# Altium integrated library ICgeneral.IntLib: 22 symbols
Pins are listed as number, name and electrical type; pins without a type are passive.

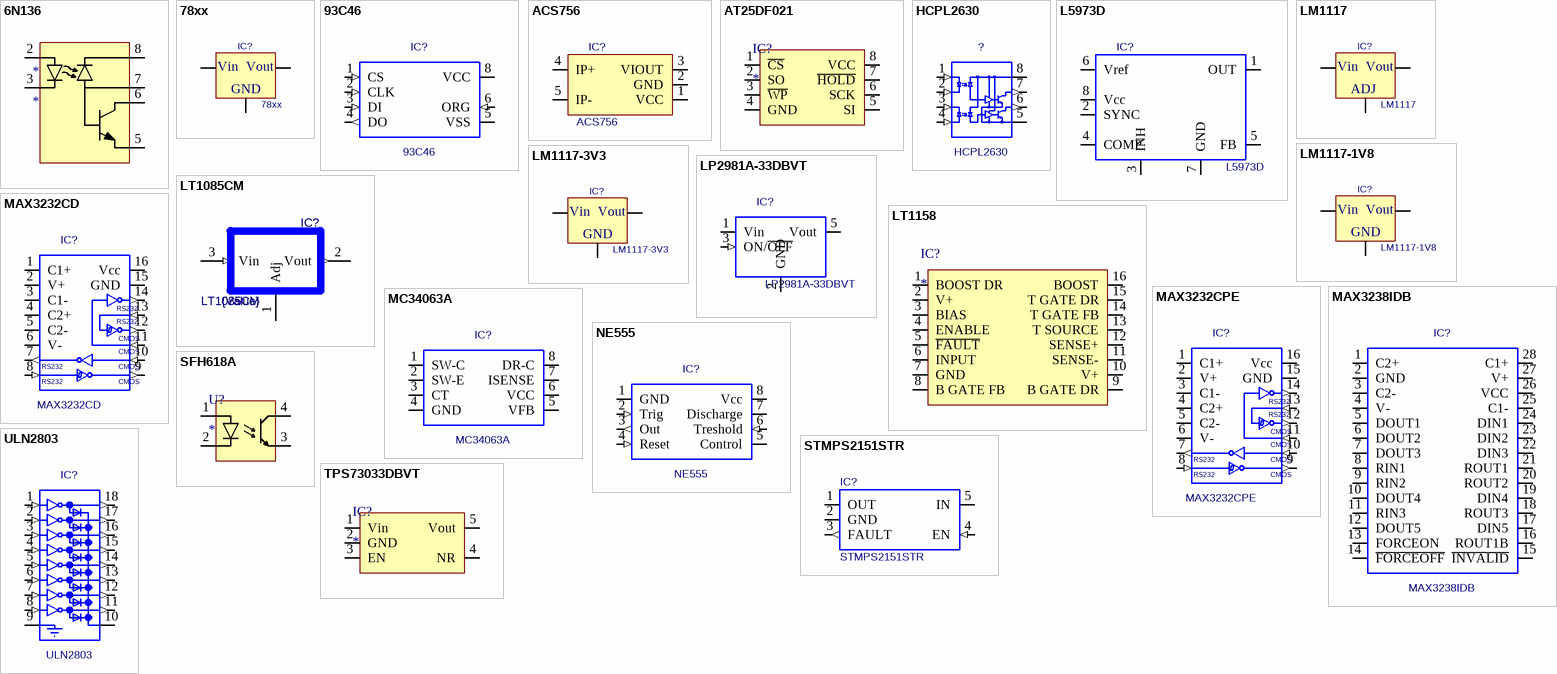
[diagram p0: symbols 6N136 to ULN2803]

## 6N136
designator *
footprint SOP-8-100mil
pins: 2 A, 3 K, 5 GND, 6 Vo, 7 Vb, 8 Vcc

## 78xx
designator IC?
3-point linear voltage regulator series 78xx; Value: *
footprint TO92; pin to pad GND>2 IN>3 OUT>1
pins: GND, IN, OUT
text: Vin; Vout

## 93C46
designator IC?
Value: *
footprint SOIC8N
pins: 1 CS (in), 2 CLK (in), 3 DI (in), 4 DO (out), 5 VSS (power), 6 ORG (in), 7 hidden, 8 VCC (power)

## ACS756
designator IC?
Value: *
footprint ALLEGRO_ACS75x
pins: 1 VCC, 2 GND, 3 VIOUT, 4 IP+, 5 IP-

## AT25DF021
designator IC?
Flash 2Mbit SPI
footprint SOIC8N
pins: 1 ~{CS}, 2 SO, 3 ~{WP}, 4 GND, 5 SI, 6 SCK, 7 ~{HOLD}, 8 VCC

## HCPL2630
designator ?
Value: *
footprint DIP8
pins: 1 (in), 2 (in), 3 (in), 4 (in), 5 GND (power), 6 (out), 7 (out), 8 VCC (power)

## L5973D
designator IC?
Value: *
pins: 1 OUT, 2 SYNC, 3 INH, 4 COMP, 5 FB, 6 Vref, 7 GND, 8 Vcc

## LM1117
designator IC?
Value: *
footprint SOT233 (SOT223, 4-Leads, Body 6,7x7,3mm (max), Pitch 2,30mm, IPC Medium Density); pin to pad ADJ>1 IN>3 OUT>2+4
pins: ADJ, IN, OUT
text: Vin; Vout

## LM1117-1V8
designator IC?
Value: *
footprint SOT233 (SOT223, 4-Leads, Body 6,7x7,3mm (max), Pitch 2,30mm, IPC Medium Density); pin to pad GND>1 IN>3 OUT>2+4
pins: GND, IN, OUT
text: Vin; Vout

## LM1117-3V3
designator IC?
Value: *
footprint SOT233 (SOT223, 4-Leads, Body 6,7x7,3mm (max), Pitch 2,30mm, IPC Medium Density); pin to pad GND>1 IN>3 OUT>2+4
pins: GND, IN, OUT
text: Vin; Vout

## LP2981A-33DBVT
designator IC?
Value: *
footprint SOT-23
pins: 1 Vin (power), 2 GND (power), 3 ON/~{OFF} (in), 4 NC hidden, 5 Vout (power)

## LT1085CM
designator IC?  value {Value}
Low Dropout Positive Adjustable Regulator; Proizvajalec: Linear Technology
footprint 3-LEAD_DD_MPACK
pins: 1 Adj, 2 Vout (out), 3 Vin (in), 4 hidden

## LT1158
designator IC?
Half Bridge N-channel Power MOSFET driver
footprint SOIC16 (SOIC, 16-Leads, Body 10,5x7,6mm (max), Pitch 1,27mm, IPC Medium Density)
pins: 1 BOOST DR, 2 V+, 3 BIAS, 4 ENABLE, 5 ~{FAULT}, 6 INPUT, 7 GND, 8 B GATE FB, 9 B GATE DR, 10 V+, 11 SENSE-, 12 SENSE+, 13 T SOURCE, 14 T GATE FB, 15 T GATE DR, 16 BOOST

## MAX3232CD
designator IC?
Value: *
pins: 1 C1+, 2 V+, 3 C1-, 4 C2+, 5 C2-, 6 V-, 7 (out), 8 (in), 9 (out), 10 (in), 11 (in), 12 (out), 13 (in), 14 (out), 15 GND, 16 Vcc
text: RS232; CMOS

## MAX3232CPE
designator IC?
Value: *
footprint DIP16
pins: 1 C1+, 2 V+, 3 C1-, 4 C2+, 5 C2-, 6 V-, 7 T2out (out), 8 R2in (in), 9 R2out (out), 10 T2in (in), 11 T1in (in), 12 R1out (out), 13 R1in (in), 14 T1out (out), 15 GND, 16 Vcc
text: RS232; CMOS

## MAX3238IDB
designator IC?
Value: *
footprint SSOP28
pins: 1 C2+, 2 GND, 3 C2-, 4 V-, 5 DOUT1, 6 DOUT2, 7 DOUT3, 8 RIN1, 9 RIN2, 10 DOUT4, 11 RIN3, 12 DOUT5, 13 FORCEON, 14 ~{FORCEOFF}, 15 ~{INVALID}, 16 ROUT1B, 17 DIN5, 18 ROUT3, 19 DIN4, 20 ROUT2, 21 ROUT1, 22 DIN3, 23 DIN2, 24 DIN1, 25 C1-, 26 VCC, 27 V+, 28 C1+

## MC34063A
designator IC?
Value: *
footprint SOIC8N
footprint DIP8
pins: 1 SW-C, 2 SW-E, 3 CT, 4 GND, 5 VFB, 6 VCC, 7 ISENSE, 8 DR-C

## NE555
designator IC?
Value: *
footprint DIP8
pins: 1 GND (power), 2 Trig (in), 3 Out (out), 4 Reset (in), 5 Control, 6 Treshold (in), 7 Discharge (oe), 8 Vcc (power)

## SFH618A
designator U?
OptoCoupler
footprint SO-4-100mil (SOP, 4-Leads, Body 4,8x6,8mm (max), Pitch 2,54mm, IPC Medium Density)
pins: 1 A, 2 K, 3 E, 4 C

## STMPS2151STR
designator IC?
HighSide current limiter 500mA; Value: *
footprint SOT-23
pins: 1 OUT (power), 2 GND (power), 3 FAULT (out), 4 EN (in), 5 IN (power)

## TPS73033DBVT
designator IC?
3.3V LDO
footprint SOT23-5 (SOT23, 5-Leads, Body 3.0x3.0mm (max), Pitch 0.95mm, IPC Medium Density)
pins: 1 Vin, 2 GND, 3 EN, 4 NR, 5 Vout

## ULN2803
designator IC?
Value: *
footprint DIP18N
pins: 1 (in), 2 (in), 3 (in), 4 (in), 5 (in), 6 (in), 7 (in), 8 (in), 9 GND (power), 10 LATCHUP (power), 11 (out), 12 (out), 13 (out), 14 (out), 15 (out), 16 (out), 17 (out), 18 (out)